# Altium schematic symbol library BIGBRIDGE.Schlib: 1 symbol
Pins are listed as number, name and electrical type; pins without a type are passive.

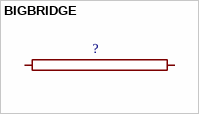
[diagram p0: symbol BIGBRIDGE]

## BIGBRIDGE
designator ?
pins: 1, 2